# Altium schematic symbol library 1N4742 Zener 12V TH.SchLib: 1 symbol
Pins are listed as number, name and electrical type; pins without a type are passive.

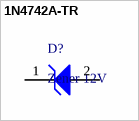
[diagram p0: symbol 1N4742A-TR]

## 1N4742A-TR
designator D?, comment Zener 12V
Diode, Zener, Vr 12V, If 200mA, Pkg DO-41, Vf 1.2V, Tj +175C, Cs 380mA, Pd 1.3W, Ir 21mA; Manufacturer: Vishay; Manufacturer Part Number: 1N4742A-TR; Tolerance: 5%; Impedance: 9R; Max Reverse Leakage Current: 5uA; Supplier: Digikey; Supplier Part Number: 1N4742AVSCT-ND; RoHS: Yes; Category: Zener Diodes; Stock: 55025; Pricing: 1=0.36, 10=0.251, 100=0.1267, 500=0.10332, 1000=0.07666, 2000=0.0645 (USD); Mounting Technology: Through Hole; Case/Package: DO-41; Pins: 2; Min Operating Temperature: -65°C; Max Operating Temperature: 175°C; Packaging: Cut Tape; Zener Voltage: 12V; Power Dissipation: 1.3W; Max Power Dissipation: 1.3W; Test Current: 21mA; Voltage Tolerance: 5%; Series: Automotive, AEC-Q101; Forward Voltage: 1.2V; Working Voltage: 12V; Max Reverse Current: 5uA; Breakdown Voltage: 12V; Diameter: 2.6mm; Length: 0.161inch; Width: 2.6mm; Height: 2.6mm; Radiation Hardening: No; Lead Free: Lead Free; RoHS Compliant: Yes; Reach SVHC Compliant: Unknown; ComponentLink1URL: https://datasheet.ciiva.com/27050/813394-27050166.pdf?src-supplier=Jameco; ComponentLink1Description: https://datasheet.ciiva.com/27050/813394-27050166.pdf?src-supplier=Jameco; ComponentLink2URL: https://datasheet.ciiva.com/18434/70061602-18434087.pdf?src-supplier=Allied+Electronics; ComponentLink2Description: https://datasheet.ciiva.com/18434/70061602-18434087.pdf?src-supplier=Allied+Electronics; ComponentLink3URL: https://datasheet.ciiva.com/26320/1n4728a-26320207.pdf?src-supplier=Element14; ComponentLink3Description: https://datasheet.ciiva.com/26320/1n4728a-26320207.pdf?src-supplier=Element14
footprint ONSC-SURMETIC40-2-017AA-01 (AXIAL, 2-Leads, Diameter 3.49mm)
pins: 1 K, 2 A